# Altium footprint library S03B-PASK-2.PcbLib: 1 footprints
Each footprint in its own frame and in the unit in brackets; x right, y up, seen from the top. Pads: shape width x height; smd on the part's side, far side on the other; paste and mask are expansions set on the pad; w line width, h text height; cw(c..) or ccw(c..) is an arc to the next point about the centre after c.
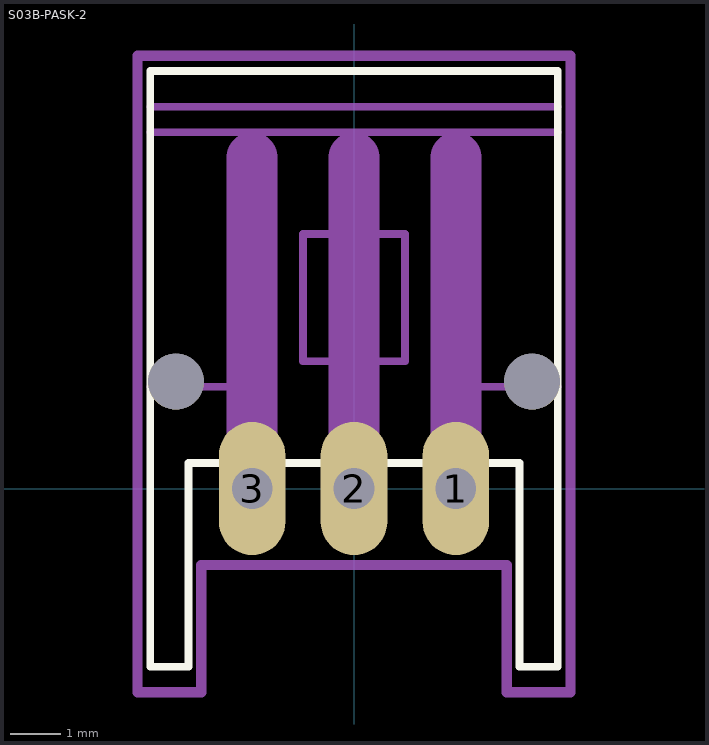
[diagram p0: the footprint, top view; thin cyan lines are the x and y axes]

## S03B-PASK-2 [mm]
pads (5):
  oval 1.308x2.616 hole 0.8: 1(2,0) 2(0,0) 3(-2,0)
  round 1.1 hole 1.1 unplated: ""(-3.5,2.1) ""(3.5,2.1)
Top Overlay:
  lines w0.152: -4,-3.5 -4,8.2 4,8.2 4,-3.5 3.25,-3.5 3.25,0.5 -3.25,0.5 -3.25,-3.5 -4,-3.5
Mechanical 13:
  lines w0.152: -4,2 -2,2 -2,7 ; -4,7 -2,7 ; -4,7.5 4,7.5 ; 4,2 2,2 2,7 ; 4,7 2,7 ; -2,7 2,7 ; -1,2.5 -1,5 1,5 1,2.5 -1,2.5
  lines w1: -2,0 -2,6.5 ; 0,0 0,6.5 ; 2,0 2,6.5
Mechanical 15:
  lines w0.2: -4.25,-4 -4.25,8.5 4.25,8.5 4.25,-4 3,-4 3,-1.5 -3,-1.5 -3,-4 -4.25,-4
3D body "S03B-PASK-2_LF__SN_.stp": height 6.5, standoff -3.4, extent -4.001,-3.437 4,8.263